# Altium schematic symbol library XTAL.SchLib: 10 symbols
Pins are listed as number, name and electrical type; pins without a type are passive.

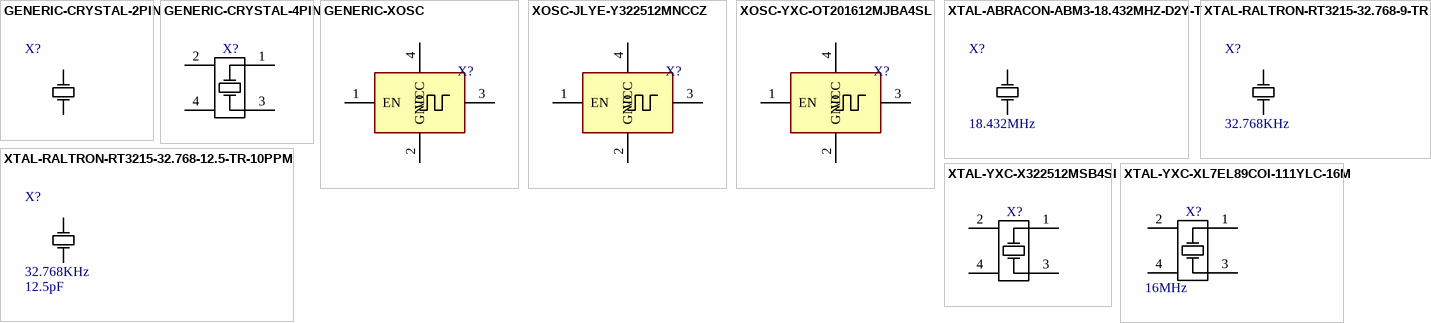
[diagram p0: symbols GENERIC-CRYSTAL-2PIN to XTAL-YXC-XL7EL89COI-111YLC-16M]

## GENERIC-CRYSTAL-2PIN
designator X?, comment CRYSTAL-2PIN  (value not drawn)
XTAL,2PIN
footprint XTAL-ABRACON-ABM3
pins: 1 OSC1, 2 OSC2

## GENERIC-CRYSTAL-4PIN
designator X?, comment CRYSTAL-4PIN  (value not drawn)
XTAL,4PIN
pins: 1 OSC1, 2 GND, 3 OSC2, 4 GND

## GENERIC-XOSC
designator X?, comment XOSC  (value not drawn)
XTAL,4PIN
pins: 1 EN, 2 GND, 3 OSC2, 4 VCC

## XOSC-JLYE-Y322512MNCCZ
designator X?, comment XOSC  (value not drawn)
XOSC,12MHz,3225; Manufacturer 1: JLYE; Manufacturer Part Number 1: Y322512MNCCZ; LCSC: C49207924
footprint XOSC3225 (OSCILLATOR, CRYSTAL, 3225 PACKAGE)
pins: 1 EN, 2 GND, 3 OSC2, 4 VCC

## XOSC-YXC-OT201612MJBA4SL
designator X?, comment XOSC  (value not drawn)
XOSC,12MHz,2016; Manufacturer 1: YXC Crystal Oscillators; Manufacturer Part Number 1: OT201612MJBA4SL; LCSC: C669076
footprint XOSC-YXC-2016 (YSO110TR)
pins: 1 EN, 2 GND, 3 OSC2, 4 VCC

## XTAL-ABRACON-ABM3-18.432MHZ-D2Y-T
designator X?, comment Frequency: 18.432MHz  (hidden comment: CRYSTAL-2PIN)
XTAL,18.432MHz,ABRACON ABM3,SMD5032; Manufacturer Part Number 1: ABM3-18.432MHZ-D2Y-T; LCSC: C1985331; Manufacturer 1: ABRACON; MOUSER: 815-ABM3-18.43-D2Y-T
footprint XTAL-ABRACON-ABM3
pins: 1 OSC1, 2 OSC2

## XTAL-RALTRON-RT3215-32.768-9-TR
designator X?, comment value 32.768KHz  (hidden comment: CRYSTAL-2PIN)
XTAL,32.768KHz,9PF,3215; LCSC: C479190; Supplier 1: Digikey; Supplier Part Number 1: 2151-RT3215-32.768-9-TRCT-ND; LOAD: 9pF
footprint XTAL-3215 (XTAL 3.2X1.5 2 PIN)
pins: 1 OSC1, 2 OSC2

## XTAL-RALTRON-RT3215-32.768-12.5-TR-10PPM
designator X?, comment value 32.768KHz  LOAD: 12.5pF  (hidden comment: CRYSTAL-2PIN)
XTAL,32.768KHz,12.5PF,3215; LCSC: C37635363; Supplier 1: Digikey; Supplier Part Number 1: 2151-RT3215-32.768-12.5-TR-10PPMCT-ND
footprint XTAL-3215 (XTAL 3.2X1.5 2 PIN)
pins: 1 OSC1, 2 OSC2

## XTAL-YXC-X322512MSB4SI
designator X?, comment 12MHz  (value not drawn)
XTAL,3225,12MHZ,X322512MSB4SI
pins: 1 OSC1, 2 GND, 3 OSC2, 4 GND

## XTAL-YXC-XL7EL89COI-111YLC-16M
designator X?, comment 16MHz
XTAL,16MHz,2016,4P; LCSC: C2965579; Frequency: 16MHz
footprint XOSC-YXC-2016 (YSO110TR)
pins: 1 OSC1, 2 GND, 3 OSC2, 4 GND